# Altium footprint library Andy_Parts.PcbLib: 121 footprints (part 4 of 8)
Each footprint in its own frame and in the unit in brackets; x right, y up, seen from the top. Pads: shape width x height; smd on the part's side, far side on the other; paste and mask are expansions set on the pad; w line width, h text height; cw(c..) or ccw(c..) is an arc to the next point about the centre after c.
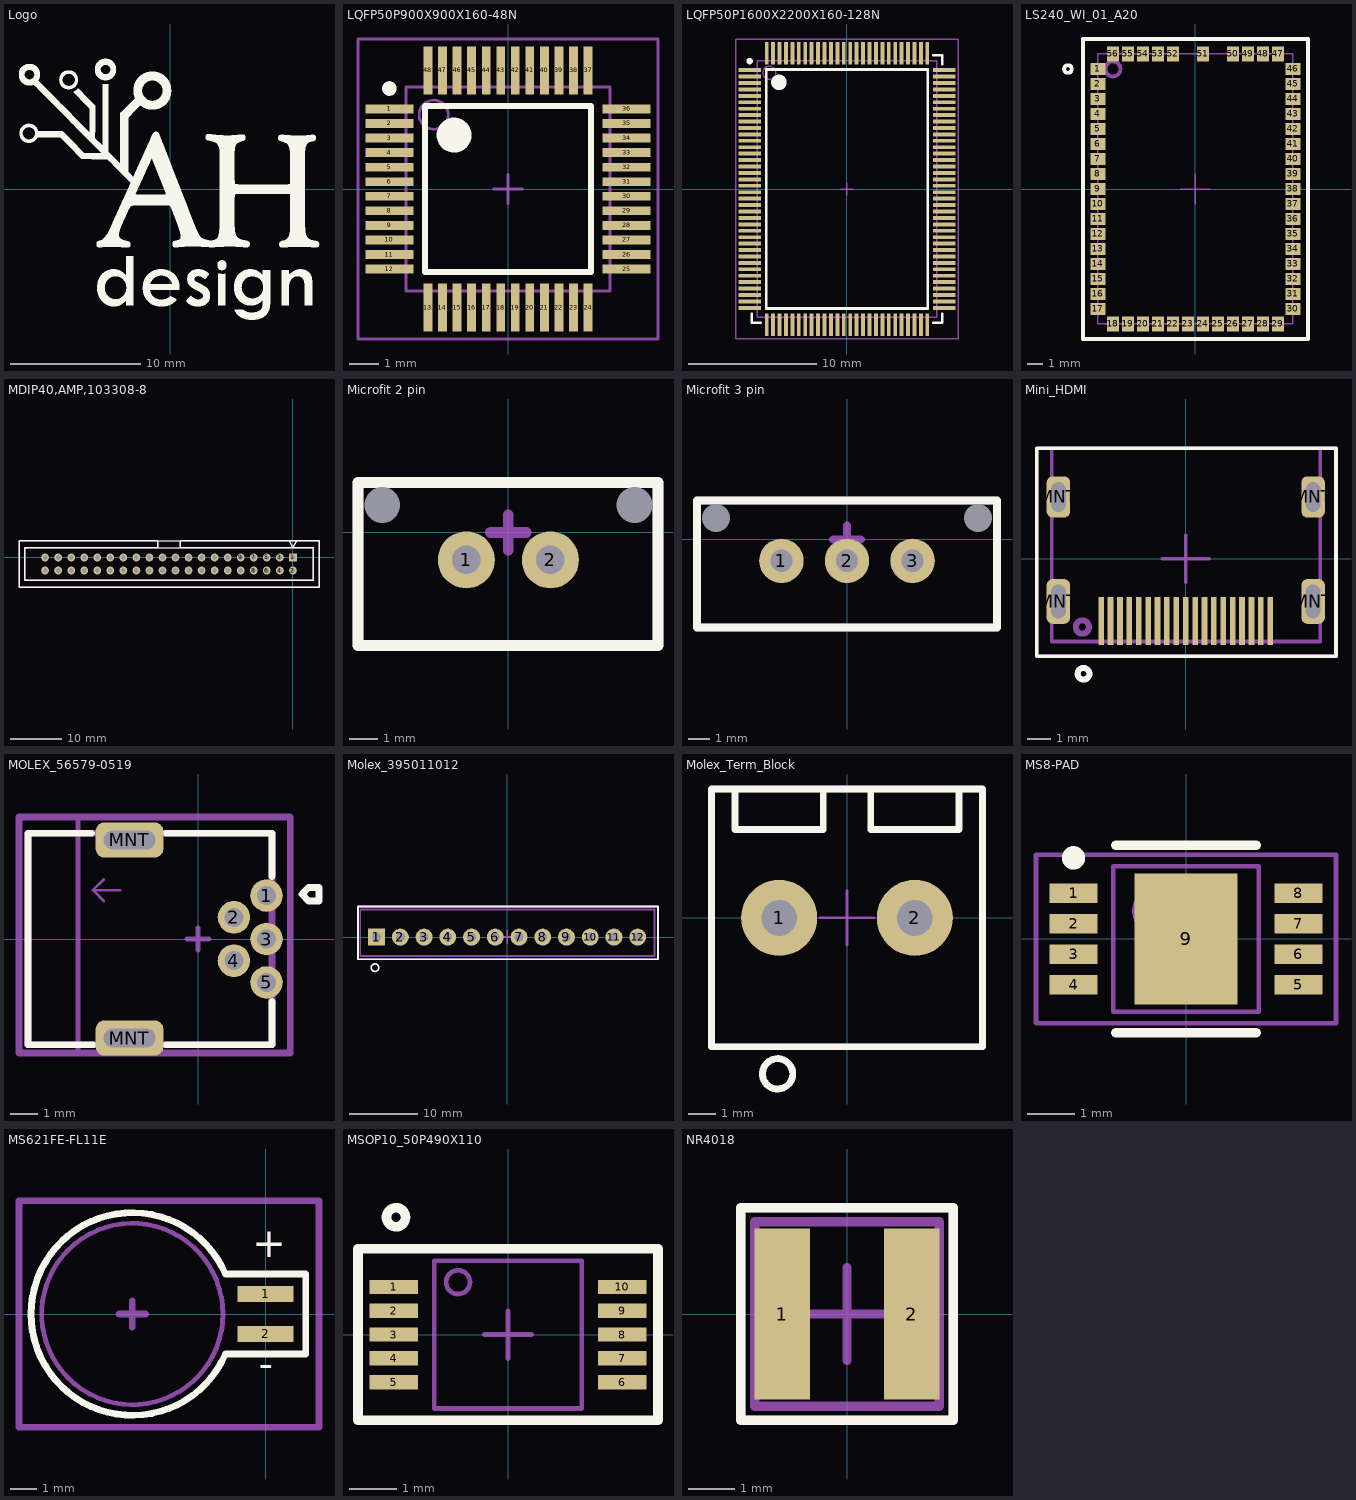
[diagram p3: the footprints below, top view; thin cyan lines are the x and y axes]

## Logo [mm] "AH Design Logo"
Top Overlay:
  drawing of 7511 lines, arcs and shapes, not listed

## LQFP50P900X900X160-48N [mm] "LQFP, 48-Leads, Body 9.0x9.0mm (max), Pitch 0.50mm, IPC Medium Density"
height 1.6
pads (48):
  rect 1.65x0.3 smd: 1(-4.075,2.75) 2(-4.075,2.25) 3(-4.075,1.75) 4(-4.075,1.25) 5(-4.075,0.75) 6(-4.075,0.25) 7(-4.075,-0.25) 8(-4.075,-0.75) 9(-4.075,-1.25) 10(-4.075,-1.75) 11(-4.075,-2.25) 12(-4.075,-2.75) 25(4.075,-2.75) 26(4.075,-2.25) 27(4.075,-1.75) 28(4.075,-1.25) 29(4.075,-0.75) 30(4.075,-0.25) 31(4.075,0.25) 32(4.075,0.75) 33(4.075,1.25) 34(4.075,1.75) 35(4.075,2.25) 36(4.075,2.75)
  rect 0.3x1.65 smd: 13(-2.75,-4.075) 14(-2.25,-4.075) 15(-1.75,-4.075) 16(-1.25,-4.075) 17(-0.75,-4.075) 18(-0.25,-4.075) 19(0.25,-4.075) 20(0.75,-4.075) 21(1.25,-4.075) 22(1.75,-4.075) 23(2.25,-4.075) 24(2.75,-4.075) 37(2.75,4.075) 38(2.25,4.075) 39(1.75,4.075) 40(1.25,4.075) 41(0.75,4.075) 42(0.25,4.075) 43(-0.25,4.075) 44(-0.75,4.075) 45(-1.25,4.075) 46(-1.75,4.075) 47(-2.25,4.075) 48(-2.75,4.075)
Top Overlay:
  circle w0.25: c-4.075,3.45 r0.125
  circle w0.6: c-1.85,1.85 r0.3
  lines w0.2: -2.85,-2.85 -2.85,2.85 2.85,2.85 2.85,-2.85 -2.85,-2.85
Mechanical 1:
  text ".Designator" at -0.75,0 h1.02
Mechanical 13:
  circle w0.1: c-2.55,2.55 r0.5
  lines w0.1: -3.5,-3.5 -3.5,3.5 3.5,3.5 3.5,-3.5 -3.5,-3.5
Mechanical 15:
  lines w0.1: -0.5,0 0.5,0 ; 0,-0.5 0,0.5 ; -5.15,-5.15 -5.15,5.15 5.15,5.15 5.15,-5.15 -5.15,-5.15
3D body: height 1.6, standoff 0.05, extent -3.5,-3.5 3.5,3.5

## LQFP50P1600X2200X160-128N [mm] "LQFP, 128-Leads, Body 22.1x16.1mm (max), Pitch 0.50mm, IPC Medium Density"
height 1.6
pads (128):
  rect 1.75x0.3 smd: 1(-7.575,9.25) 2(-7.575,8.75) 3(-7.575,8.25) 4(-7.575,7.75) 5(-7.575,7.25) 6(-7.575,6.75) 7(-7.575,6.25) 8(-7.575,5.75) 9(-7.575,5.25) 10(-7.575,4.75) 11(-7.575,4.25) 12(-7.575,3.75) 13(-7.575,3.25) 14(-7.575,2.75) 15(-7.575,2.25) 16(-7.575,1.75) 17(-7.575,1.25) 18(-7.575,0.75) 19(-7.575,0.25) 20(-7.575,-0.25) 21(-7.575,-0.75) 22(-7.575,-1.25) 23(-7.575,-1.75) 24(-7.575,-2.25) 25(-7.575,-2.75) 26(-7.575,-3.25) 27(-7.575,-3.75) 28(-7.575,-4.25) 29(-7.575,-4.75) 30(-7.575,-5.25) 31(-7.575,-5.75) 32(-7.575,-6.25) 33(-7.575,-6.75) 34(-7.575,-7.25) 35(-7.575,-7.75) 36(-7.575,-8.25) 37(-7.575,-8.75) 38(-7.575,-9.25) 65(7.575,-9.25) 66(7.575,-8.75) 67(7.575,-8.25) 68(7.575,-7.75) 69(7.575,-7.25) 70(7.575,-6.75) 71(7.575,-6.25) 72(7.575,-5.75) 73(7.575,-5.25) 74(7.575,-4.75) 75(7.575,-4.25) 76(7.575,-3.75) 77(7.575,-3.25) 78(7.575,-2.75) 79(7.575,-2.25) 80(7.575,-1.75) 81(7.575,-1.25) 82(7.575,-0.75) 83(7.575,-0.25) 84(7.575,0.25) 85(7.575,0.75) 86(7.575,1.25) 87(7.575,1.75) 88(7.575,2.25) 89(7.575,2.75) 90(7.575,3.25) 91(7.575,3.75) 92(7.575,4.25) 93(7.575,4.75) 94(7.575,5.25) 95(7.575,5.75) 96(7.575,6.25) 97(7.575,6.75) 98(7.575,7.25) 99(7.575,7.75) 100(7.575,8.25) 101(7.575,8.75) 102(7.575,9.25)
  rect 0.3x1.75 smd: 39(-6.25,-10.575) 40(-5.75,-10.575) 41(-5.25,-10.575) 42(-4.75,-10.575) 43(-4.25,-10.575) 44(-3.75,-10.575) 45(-3.25,-10.575) 46(-2.75,-10.575) 47(-2.25,-10.575) 48(-1.75,-10.575) 49(-1.25,-10.575) 50(-0.75,-10.575) 51(-0.25,-10.575) 52(0.25,-10.575) 53(0.75,-10.575) 54(1.25,-10.575) 55(1.75,-10.575) 56(2.25,-10.575) 57(2.75,-10.575) 58(3.25,-10.575) 59(3.75,-10.575) 60(4.25,-10.575) 61(4.75,-10.575) 62(5.25,-10.575) 63(5.75,-10.575) 64(6.25,-10.575) 103(6.25,10.575) 104(5.75,10.575) 105(5.25,10.575) 106(4.75,10.575) 107(4.25,10.575) 108(3.75,10.575) 109(3.25,10.575) 110(2.75,10.575) 111(2.25,10.575) 112(1.75,10.575) 113(1.25,10.575) 114(0.75,10.575) 115(0.25,10.575) 116(-0.25,10.575) 117(-0.75,10.575) 118(-1.25,10.575) 119(-1.75,10.575) 120(-2.25,10.575) 121(-2.75,10.575) 122(-3.25,10.575) 123(-3.75,10.575) 124(-4.25,10.575) 125(-4.75,10.575) 126(-5.25,10.575) 127(-5.75,10.575) 128(-6.25,10.575)
Top Overlay:
  circle w0.6: c-5.3,8.3 r0.3
  circle w0.25: c-7.575,9.95 r0.125
  lines w0.2: -7.4,-9.7 -7.4,-10.4 -6.7,-10.4 ; 6.7,-10.4 7.4,-10.4 7.4,-9.7 ; 6.7,10.4 7.4,10.4 7.4,9.7 ; -6.3,-9.3 6.3,-9.3 6.3,9.3 -6.3,9.3 -6.3,-9.3
Mechanical 1:
  text ".Designator" at -1.7,-0.6 h1.52
Mechanical 13:
  circle w0.1: c-6.05,9.05 r0.5
  lines w0.1: -7,-10 7,-10 7,10 -7,10 -7,-10
Mechanical 15:
  lines w0.1: -0.5,0 0.5,0 ; 0,-0.5 0,0.5 ; -8.675,-11.675 8.675,-11.675 8.675,11.675 -8.675,11.675 -8.675,-11.675
3D body: height 1.6, standoff 0.05, extent -7,-10 7,10

## LS240_WI_01_A20 [mm] "802.11b/g, Bluetooth, FM module"
height 1.9
pads (56):
  rect 1x0.8 smd: 1(-6.5,8) 2(-6.5,7) 3(-6.5,6) 4(-6.5,5) 5(-6.5,4) 6(-6.5,3) 7(-6.5,2) 8(-6.5,1) 9(-6.5,0) 10(-6.5,-1) 11(-6.5,-2) 12(-6.5,-3) 13(-6.5,-4) 14(-6.5,-5) 15(-6.5,-6) 16(-6.5,-7) 17(-6.5,-8) 30(6.5,-8) 31(6.5,-7) 32(6.5,-6) 33(6.5,-5) 34(6.5,-4) 35(6.5,-3) 36(6.5,-2) 37(6.5,-1) 38(6.5,0) 39(6.5,1) 40(6.5,2) 41(6.5,3) 42(6.5,4) 43(6.5,5) 44(6.5,6) 45(6.5,7) 46(6.5,8)
  rect 0.8x1 smd: 18(-5.5,-9) 19(-4.5,-9) 20(-3.5,-9) 21(-2.5,-9) 22(-1.5,-9) 23(-0.5,-9) 24(0.5,-9) 25(1.5,-9) 26(2.5,-9) 27(3.5,-9) 28(4.5,-9) 29(5.5,-9) 47(5.5,9) 48(4.5,9) 49(3.5,9) 50(2.5,9) 51(0.5,9) 52(-1.5,9) 53(-2.5,9) 54(-3.5,9) 55(-4.5,9) 56(-5.5,9)
Top Overlay:
  circle w0.254: c-8.5,8 r0.254
  lines w0.254: -7.5,-10 7.5,-10 7.5,10 -7.5,10 -7.5,-10
Mechanical 1:
  text ".Designator" at -3,-0.5 h3.81
Mechanical 13:
  circle w0.254: c-5.5,8 r0.5
  lines w0.1: -6.5,-9 -6.5,9 6.5,9 6.5,-9 -6.5,-9
Mechanical 15:
  lines w0.1: -1,0 1,0 ; 0,-1 0,1 ; -7.5,-10 -7.5,10 7.5,10 7.5,-10 -7.5,-10
3D body: height 1.9, standoff 0, extent -6.5,-9 6.5,9

## MDIP40,AMP,103308-8 [mil]
pads (40):
  rect 60x60 hole 35: 1(0,0)
  round 60 hole 35: 2(0,-100) 3(-100,0) 4(-100,-100) 5(-200,0) 6(-200,-100) 7(-300,0) 8(-300,-100) 9(-400,0) 10(-400,-100) 11(-500,0) 12(-500,-100) 13(-600,0) 14(-600,-100) 15(-700,0) 16(-700,-100) 17(-800,0) 18(-800,-100) 19(-900,0) 20(-900,-100) 21(-1000,0) 22(-1000,-100) 23(-1100,0) 24(-1100,-100) 25(-1200,0) 26(-1200,-100) 27(-1300,0) 28(-1300,-100) 29(-1400,0) 30(-1400,-100) 31(-1500,0) 32(-1500,-100) 33(-1600,0) 34(-1600,-100) 35(-1700,0) 36(-1700,-100) 37(-1800,0) 38(-1800,-100) 39(-1900,0) 40(-1900,-100)
Top Overlay:
  lines w5: -1035,75 -865,75 ; -1035,130 -865,130
  lines w10: -30,130 0,75 30,130 ; -2100,-230 -2100,130 -1035,130 -1035,75 -2055,75 -2055,-175 155,-175 155,75 -865,75 -865,130 200,130 200,-230 -2100,-230
Mechanical 1:
  text ".Designator" at -1173.23,-62.99 h25
Mechanical 13:
  lines w5: -1035,75 -865,75 ; -1035,130 -865,130
  lines w10: -30,130 0,75 30,130 ; -2100,-230 -2100,130 -1035,130 -1035,75 -2055,75 -2055,-175 155,-175 155,75 -865,75 -865,130 200,130 200,-230 -2100,-230
3D body: height 388, standoff -120, extent -2100,-231 200,129

## Microfit 2 pin [mil] "Molex Microfit header, 2 pin"
height 691
pads (4):
  round 80 hole 40: 1(-59,-38.5) 2(59,-38.5)
  round 0 hole 50 unplated: PIN(-177,38.5) PIN(177,38.5)
Top Overlay:
  lines w15: -211,-158.5 210,-158.5 210,70 -211,70 -211,-158.5
Mechanical 15:
  lines w15: -25,0 25,0 ; 0,-25 0,25 ; -211,-158.5 -211,70 210,70 210,-158.5 -211,-158.5
3D body: height 389.88, standoff -125.08, extent -189.92,-159.65 190,59.65

## Microfit 3 pin [mil] "Molex Microfit header, 3 pin"
height 691
pads (5):
  round 80 hole 40: 1(-118,-38.5) 2(0,-38.5) 3(118,-38.5)
  round 0 hole 50 unplated: PIN(-236,38.5) PIN(236,38.5)
Top Overlay:
  lines w15: 270,55 270,70 238.5,70 -270,70 -270,-158.5 270,-158.5 270,61.5
Mechanical 15:
  lines w15: -25,0 25,0 ; 0,-25 0,25 ; 270,55 270,70 238.5,70 -270,70 -270,-158.5 270,-158.5 270,61.5
3D body: height 389.88, standoff -125.08, extent -248.03,-159.29 250,60

## Mini_HDMI [mm] "Samtec Mini HDMI Connector"
pads (23):
  rect 0.24x2.05 smd: 1(-3.6,-2.64) 2(-3.2,-2.64) 3(-2.8,-2.64) 4(-2.4,-2.64) 5(-2,-2.64) 6(-1.6,-2.64) 7(-1.2,-2.64) 8(-0.8,-2.64) 9(-0.4,-2.64) 10(0,-2.64) 11(0.4,-2.64) 12(0.8,-2.64) 13(1.2,-2.64) 14(1.6,-2.64) 15(2,-2.64) 16(2.4,-2.64) 17(2.8,-2.64) 18(3.2,-2.64) 19(3.6,-2.64)
  rrect50% 1x1.9 hole 0.62 slot 1.44 at 90 deg: MNT(-5.425,-1.81) MNT(5.425,-1.81)
  rrect50% 1x1.75 hole 0.62 slot 1.26 at 90 deg: MNT(-5.425,2.64) MNT(5.425,2.64)
Top Overlay:
  circle w0.254: c-4.35,-4.89 r0.25
  lines w0.152: -6.35,-4.14 -6.35,4.71 -6.2,4.71 6.4,4.71 6.4,1.11 6.4,-4.14 -6.35,-4.14
Mechanical 1:
  text ".Designator" at -1.9,0.1 h1
Mechanical 13:
  circle w0.254: c-4.4,-2.9 r0.283
  lines w0.152: -5.7,-3.515 -5.7,4.71 5.725,4.71 5.725,-3.515 -5.7,-3.515
Mechanical 15:
  lines w0.152: -1,0 1,0 ; 0,-1 0,1 ; -6.35,-4.14 6.4,-4.14 6.4,1.11 6.4,4.71 -6.2,4.71 -6.35,4.71 -6.35,-4.14
3D body: height 3.28, standoff -0.92, extent -5.753,-3.515 5.725,4.686

## MOLEX_56579-0519 [mm] "USB Mini Type AB OTG, Through Hole, Molex"
height 3.95
pads (7):
  round 1.2 hole 0.7: 1(2.525,1.6) 2(1.325,0.8) 3(2.525,0) 4(1.325,-0.8) 5(2.525,-1.6)
  rrect50% 2.5x1.3 hole 0.7 slot 1.9 at 0 deg: MNT(-2.525,-3.65) MNT(-2.525,3.65)
Top Overlay:
  lines w0.254: -3.925,3.9 -6.275,3.9 -6.275,-3.9 -3.875,-3.9 ; -1.175,-3.9 2.725,-3.9 2.725,-2.3 ; -1.175,3.9 2.725,3.9 2.725,2.3 ; 3.825,1.651 4.079,1.397 4.46,1.397 4.46,1.905 4.079,1.905 3.825,1.651
Mechanical 1:
  text ".Designator" at -2.675,-0.5 h0.64
Mechanical 13:
  lines w0.254: -6.275,-3.9 -6.275,3.9 2.725,3.9 2.725,-3.9 -6.275,-3.9
Mechanical 15:
  lines w0.1: -3.475,1.4 -3.875,1.8 ; -3.475,2.2 -3.875,1.8 ; -2.875,1.8 -3.875,1.8
  lines w0.2: -4.425,-4.2 -4.425,4.5 ; -0.4,0 0.4,0 ; 0,-0.4 0,0.4
  lines w0.254: -6.6,-4.2 3.4,-4.2 3.4,4.5 -6.6,4.5 -6.6,-4.2
  text "Board Edge" at -2.675,1.6 h0.75
3D body: height 3.98, standoff -1.77, extent -6.318,-3.85 2.682,3.85

## Molex_395000012 [mm] "Molex 395000012 footprint"
height 15.5
3D body: height 0, standoff -15.49, extent -19.75,-5.75 23.049,5.426

## Molex_395011012 [mm] "Molex 395011012 footprint"
height 9.2
pads (12):
  rect 2.5x2.5 hole 1.3: 1(-19.25,0)
  round 2.5 hole 1.3: 2(-15.75,0) 3(-12.25,0) 4(-8.75,0) 5(-5.25,0) 6(-1.75,0) 7(1.75,0) 8(5.25,0) 9(8.75,0) 10(12.25,0) 11(15.75,0) 12(19.25,0)
Top Overlay:
  circle w0.254: c-19.5,-4.5 r0.559
  lines w0.254: -22,-3.25 22.25,-3.25 22.25,4.5 -22,4.5 -22,-3.25
Mechanical 1:
  text ".Designator" at -1,2 h1.5
Mechanical 13:
  lines w0.254: -21.675,-2.779 -21.675,4.079 21.734,4.079 21.734,-2.779 -21.675,-2.779
Mechanical 15:
  lines w0.254: -1,0 1,0 ; 0,-1 0,1 ; -22,-3.25 -22,4.5 22.25,4.5 22.25,-3.25 -22,-3.25
3D body: height 9.2, standoff -3.5, extent -21.675,-2.779 21.734,4.079

## Molex_Term_Block [mm] "Molex 2 pos. terminal block, wire to board"
height 14.5
pads (2):
  round 2.8 hole 1.32: 1(-2.5,0) 2(2.5,0)
Top Overlay:
  circle w0.254: c-2.559,-5.75 r0.559
  lines w0.254: -4.125,4.75 -4.125,3.25 -0.875,3.25 -0.875,4.75 ; 0.875,4.75 0.875,3.25 4.125,3.25 4.125,4.75 ; -5,-4.75 5,-4.75 5,4.75 -5,4.75 -5,-4.75
Mechanical 1:
  text ".Designator" at -2.685,-0.127 h0.64
Mechanical 13:
  lines w0.254: -5,-4.75 -5,4.75 5,4.75 5,-4.75 -5,-4.75
Mechanical 15:
  lines w0.1: -1,0 0,0 ; 0,-1 0,0 ; 0,1 0,0 ; 1,0 0,0
  lines w0.254: -5,-4.75 -5,4.75 5,4.75 5,-4.75 -5,-4.75
3D body: height 14.5, standoff 0, extent -5,-4.75 5,4.75

## MS8-PAD [mm] "MSOP, 8-Leads, Body 3.1x3.1mm (max), Pitch 0.65mm, IPC Medium Density"
height 1.09
pads (9):
  rect 1.02x0.41 smd: 1(-2.4,0.975) 2(-2.4,0.325) 3(-2.4,-0.325) 4(-2.4,-0.975) 5(2.4,-0.975) 6(2.4,-0.325) 7(2.4,0.325) 8(2.4,0.975)
  rect 2.2x2.8 smd: 9(0,0)
Top Overlay:
  circle w0.25: c-2.4,1.73 r0.125
  lines w0.2: -1.5,-2 1.5,-2 ; -1.5,2 1.5,2
Mechanical 1:
  text ".Designator" at -0.635,-0.254 h1.27
Mechanical 13:
  circle w0.1: c-0.6,0.6 r0.5
  lines w0.1: -1.55,-1.55 -1.55,1.55 1.55,1.55 1.55,-1.55 -1.55,-1.55
Mechanical 15:
  lines w0.1: -0.5,0 0.5,0 ; 0,-0.5 0,0.5 ; -3.2,-1.8 -3.2,1.8 3.2,1.8 3.2,-1.8 -3.2,-1.8
3D body: height 1.09, standoff 0, extent -1.55,-1.55 1.55,1.55
3D body: height 1.09, standoff -0.01, extent -2.469,-1.55 2.469,1.55

## MS621FE-FL11E [mm] "6.8mm diameter rechargeable coin cell battery"
height 2.7
pads (2):
  rect 2.1x0.6 smd: 1(0,0.75) 2(0,-0.75)
Top Overlay:
  lines w0.254: -1.507,-1.497 cw(c-5,0) -1.507,1.497 1.5,1.497 1.5,1.25 1.5,-1.497 -1.507,-1.497
  text "+" at -0.5,1.75 h1.91
  text "-" at -0.25,-2.75 h1.91
Mechanical 1:
  text ".Designator" at -6.75,-0.5 h1.91
Mechanical 13:
  circle w0.178: c-5,0 r3.4
Mechanical 15:
  lines w0.254: -5.5,0 -4.5,0 ; -5,-0.5 -5,0.5 ; -9.25,-4.25 -9.25,4.25 2,4.25 2,0.5 2,-4.25 0,-4.25 -9.25,-4.25
3D body: height 2.7, standoff 0, extent -8.398,-3.393 -1.625,3.393

## MSOP10_50P490X110 [mm] "MSOP, 10-Leads, Body 3.1x3.1mm (max), Pitch 0.50mm, IPC Medium Density"
height 1.1
pads (10):
  rect 1.02x0.3 smd: 1(-2.4,1) 2(-2.4,0.5) 3(-2.4,0) 4(-2.4,-0.5) 5(-2.4,-1) 6(2.4,-1) 7(2.4,-0.5) 8(2.4,0) 9(2.4,0.5) 10(2.4,1)
Top Overlay:
  circle w0.2: c-2.352,2.464 r0.2
  lines w0.2: -3.15,-1.8 3.15,-1.8 3.15,1.8 -3.15,1.8 -3.15,-1.8
Mechanical 1:
  text ".Designator" at 0.217,-1.434 h0.64
Mechanical 13:
  circle w0.1: c-1.05,1.1 r0.25
  lines w0.1: -1.55,-1.55 1.55,-1.55 1.55,1.55 -1.55,1.55 -1.55,-1.55
Mechanical 15:
  lines w0.1: -0.5,0 0.5,0 ; 0,-0.5 0,0.5 ; -3.125,-1.8 3.125,-1.8 3.125,1.8 -3.125,1.8 -3.125,-1.8
3D body: height 1.1, standoff 0.05, extent -1.55,-1.55 1.55,1.55

## NR4018 [mm] "Taiyo Yuden NR4018 series inductor footprint"
height 1.8
pads (2):
  rect 1.2x3.7 smd: 1(-1.4,0) 2(1.4,0)
Top Overlay:
  lines w0.203: -2.3,-2.3 -2.3,2.3 -2.2,2.3 2.3,2.3 2.3,-2.2 2.3,-2.3 -1.9,-2.3 -2.3,-2.3
Mechanical 1:
  text ".Designator" at -1.685,-0.127 h0.64
Mechanical 13:
  lines w0.203: -2,-2 -2,2 2,2 2,-2 -2,-2
Mechanical 15:
  lines w0.203: -1,0 0,0 ; 0,-1 0,0 ; 0,1 0,0 ; 1,0 0,0 ; -2.3,-2.3 -1.9,-2.3 2.3,-2.3 2.3,-2.2 2.3,2.3 -2.2,2.3 -2.3,2.3 -2.3,-2.3
3D body: height 1.8, standoff 0, extent -1.975,-2 2,2